# Altium footprint library DO-214AC, SMA.PcbLib: 1 footprints
Each footprint in its own frame and in the unit in brackets; x right, y up, seen from the top. Pads: shape width x height; smd on the part's side, far side on the other; paste and mask are expansions set on the pad; w line width, h text height; cw(c..) or ccw(c..) is an arc to the next point about the centre after c.
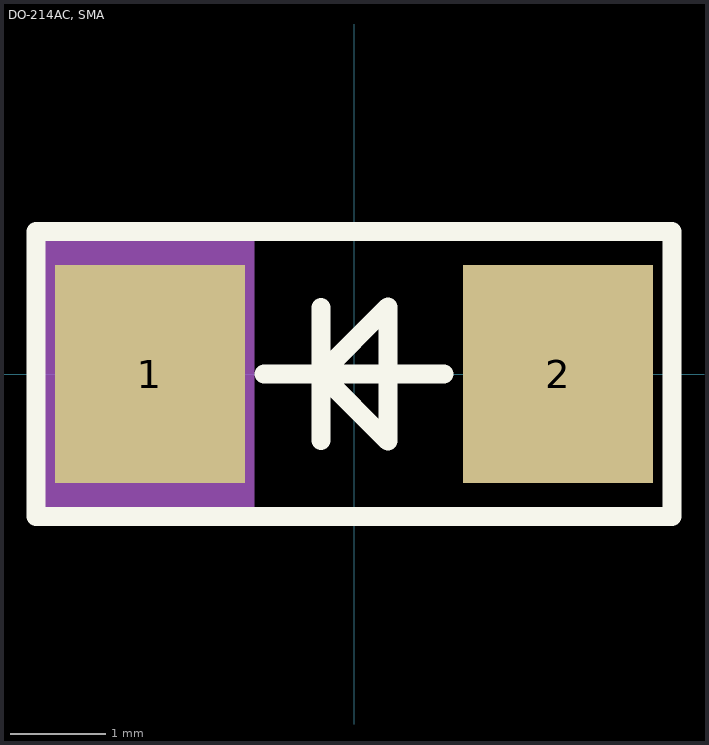
[diagram p0: the footprint, top view; thin cyan lines are the x and y axes]

## DO-214AC, SMA [mm]
height 0.9
pads (2):
  rect 2x2.3 smd: 1(-2.15,0) 2(2.15,0)
Top Overlay:
  lines w0.2: -0.95,0 -0.35,0 ; -0.35,-0.7 -0.35,0 ; -0.35,0.7 -0.35,0 ; 0.95,0 -0.35,0 ; -0.35,0 0.357,-0.707 0.357,0.707 -0.35,0 ; -3.35,-1.5 -3.35,1.5 3.35,1.5 3.35,-1.5 -3.35,-1.5
Top Assembly:
  rectangle: -3.3,-1.5 -1.05,1.5
  lines w0.1: -3.3,-1.5 -3.3,1.5 3.35,1.5 3.35,-1.5 -3.3,-1.5
  text "'.Designator'" at -0.95,-0.35 h0.7
3D body "DO-214AC(SMA).STEP": height 2.24, standoff -0.04, extent -2.743,-1.397 2.743,1.397